# EAGLE library part L6387E (library custom-devices)
High- and Low-Side N-Channel MOSFET or IGBT driver
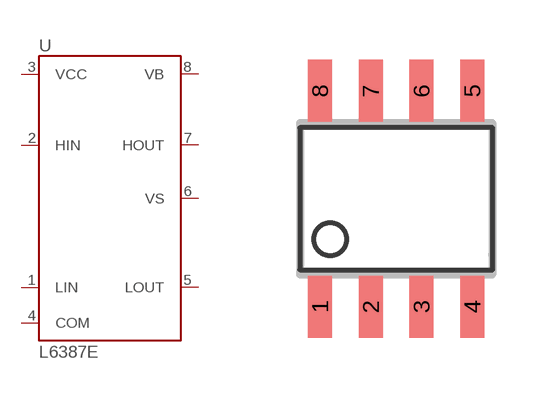
[diagram p23: symbol with the pads of SOIC08; footprint SOIC08]

Designator prefix U

## L6387E_SOIC08 (DIGI-KEY: 497-6218-1-ND; FARNELL: 2449086)  [SOIC08]
1  LIN
2  HIN
3  VCC
4  COM
5  LOUT
6  VS
7  HOUT
8  VB

## Footprint SOIC08 (pad centres in mm)
Small Outline IC
smd 0.6 x 1.55: 1 -1.905,-2.7; 2 -0.635,-2.7; 3 0.635,-2.7; 4 1.905,-2.7; 5 1.905,2.7; 6 0.635,2.7; 7 -0.635,2.7; 8 -1.905,2.7